# Altium integrated library Linear Technology Power Management Hot Swap Controllers.IntLib: 992 symbols (part 64 of 93)
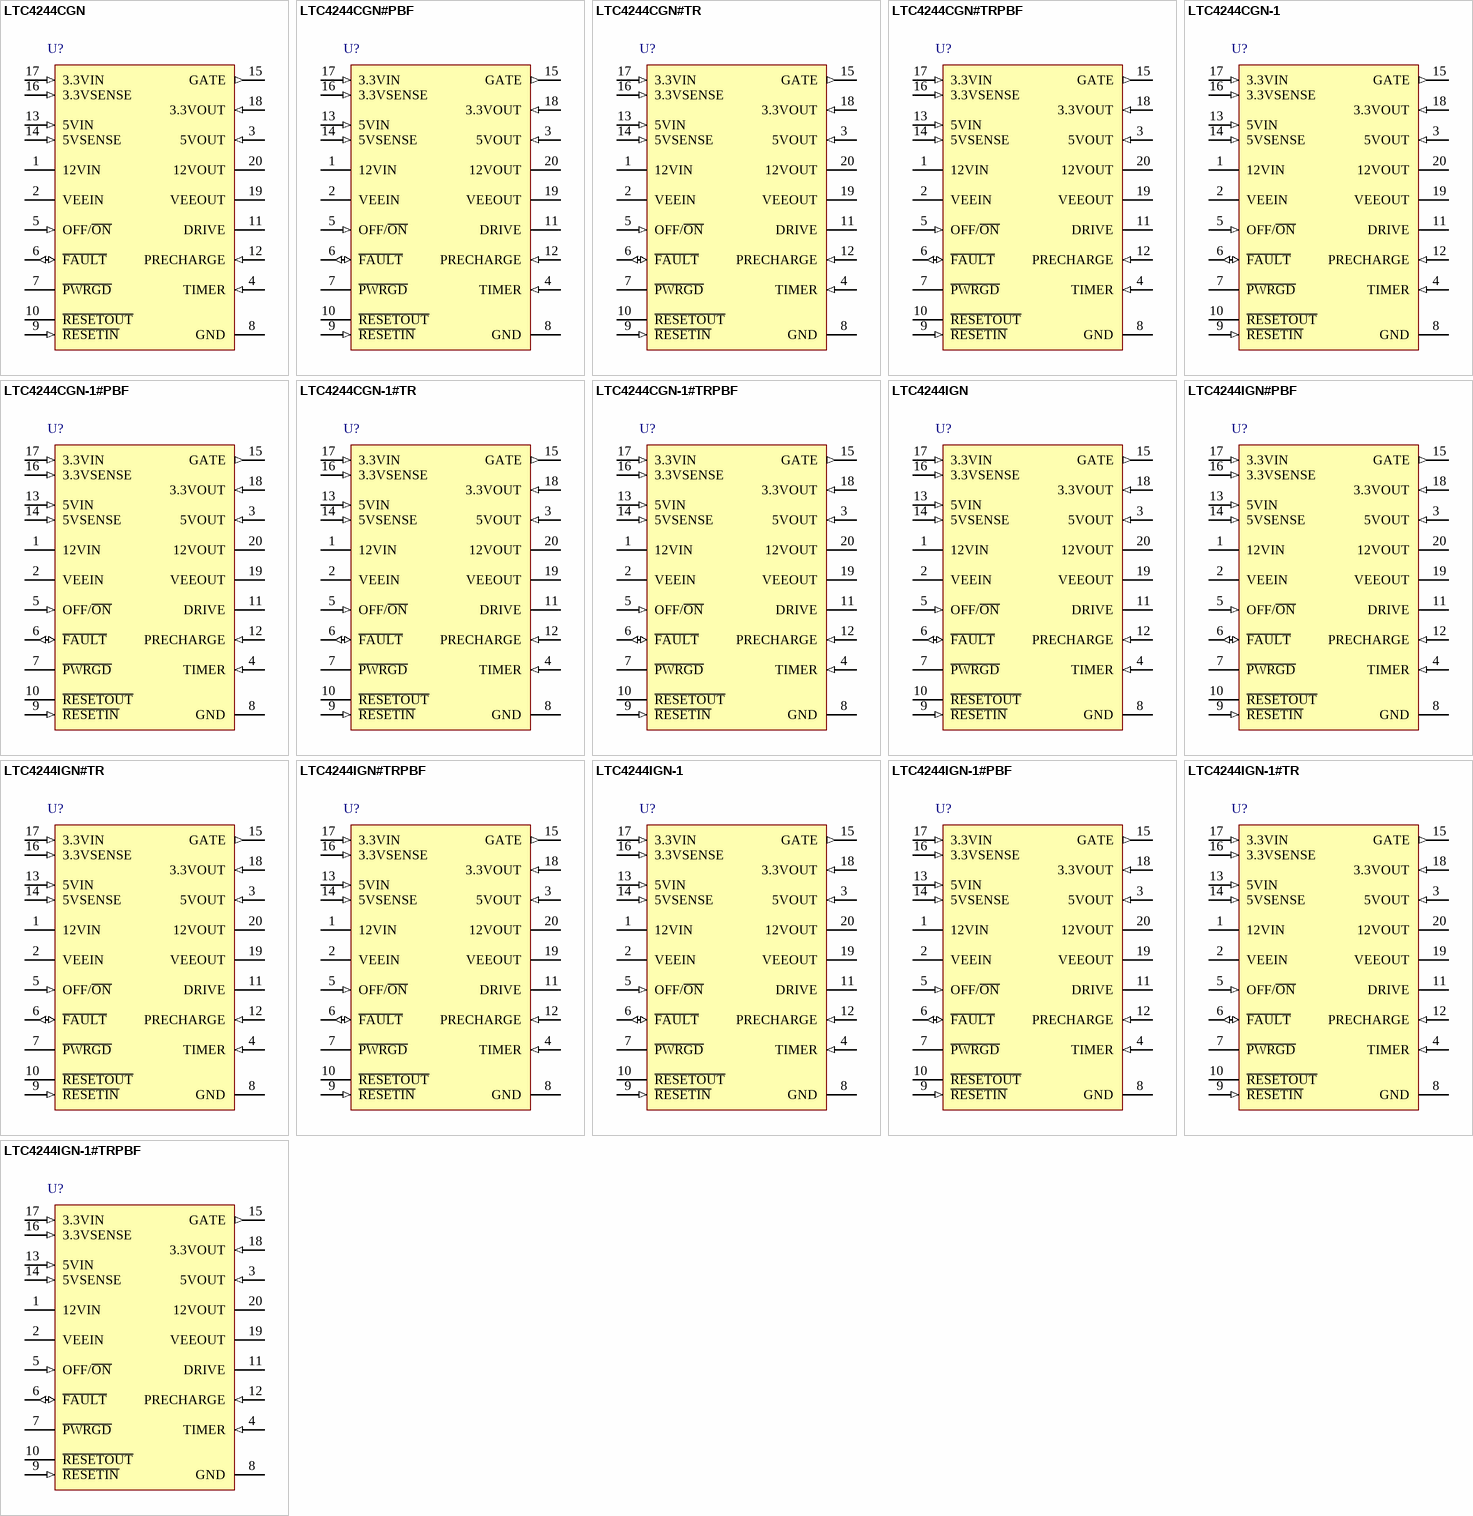
[diagram p100: symbols LTC4244CGN to LTC4244IGN-1#TRPBF]

## LTC4244CGN#TRPBF
designator U?
Rugged, Compact PCI Bus Hot Swap Controller, 3.3 V, 5 V, +/-12 V Vin, 20-pin SOP (GN-20), 0 to 70 degC, Pb-Free, Tape and Reel; Manufacturer: Linear Technology; PartNumber: LTC4244CGN#TRPBF; Active Limiting: yes; Circuit Breaker Accuracy(%): 14; Circuit Breaker Threshold: 52 mV; Circuit Breakers(#): 4; Extended Temp: C, I; Fast Comparator: no; In-Rush Current: Active; PackageVersion: Rev. B, 03/2012; PackageReference: GN-20; PackageDescription: 20-Pin Plastic SSOP, Body 8.649 x 3.899 mm, Pitch 0.635 mm; Supplier 1: Digi-Key; Supplier Part Number 1: LTC4244CGN#TRPBF-ND; Fault: yes; Foldback: yes; Packing: Tape and Reel; Power Good: yes; Reset: no; RoHS: TRUE; Vin Range: 3.3 V, 5 V, +/-12 V; Mounting Technology: Surface Mount; ComponentLink1Description: Manufacturer URL; ComponentLink1URL: http://www.linear.com/; ComponentLink2Description: Datasheet; ComponentLink2URL: http://cds.linear.com/docs/en/datasheet/42441f.pdf; ComponentLink3Description: Package Specification; ComponentLink3URL: http://cds.linear.com/docs/en/packaging/05081641_B_GN20.pdf
footprint LT-GN-20_N (SOP, 20-Leads, Body 8.7x4mm, Pitch 0.635mm, IPC Medium Density)
footprint LT-GN-20_L (SOP, 20-Leads, Body 8.7x4mm, Pitch 0.635mm, IPC High Density)
footprint LT-GN-20_M (SOP, 20-Leads, Body 8.7x4mm, Pitch 0.635mm, IPC Low Density)
pins: 1 12VIN (power) "12V Supply Input. A 0.5ohm switch is connected between 12VIN and 12VOUT with a foldback current limit. An undervoltage lockout circuit prevents the switches from turning on while the 12VIN pin voltage is less than 9V. 12VIN (See Datasheet)", 2 VEEIN (power) "-12V Supply Input. A 1ohm switch is connected between VEEIN and VEEOUT with a foldback current limit. An undervoltage lockout circuit prevents the switches from turning on while the VEEIN pin voltage is greater than -9.25V. (See Datasheet)", 3 5VOUT (in) "5V Output Sense. The P\W\R\G\D\ pin will not pull low until the 5VOUT pin voltage exceeds 4.61V. A 200ohm active pull-down discharges 5VOUT to ground when the power switches are turned off.", 4 TIMER (in) "Current Fault Inhibit Timing Input and Auxiliary VCC. Connect a capacitor from TIMER to GND. When the LTC4244 is turned on, a 21uA pull-up current source is connected to TIMER. Current limit faults will be ignored until the (See Datasheet)", 5 OFF/~{ON} (in) "Digital Input. Connect the CPCI BD_SEL# signal to the OFF/O\N\ pin. When the OFF/O\N\ pin is pulled low, the GATE pin is pulled high by a 67uA current source and the internal 12V and -12V switches are turned on. When the (See Datasheet)", 6 ~{FAULT} (io) "Open-Drain Digital I/O. F\A\U\L\T\ is pulled low when a current limit fault is detected. Current limit faults are ignored until the voltage at the TIMER pin is within 1.6V of 12VIN. Once the TIMER cycle is complete, (See Datasheet)", 7 ~{PWRGD} (oc) "Open-Drain Digital Power Good Output. Connect the CPCI HEALTHY# signal to the P\W\R\G\D\ pin. P\W\R\G\D\ remains low while V12VOUT >= 11.1V, V3.3VOUT >= 2.9V, V5VOUT >= 4.61V, and VEEOUT=< -11.1V. When any of the supplies (See Datasheet)", 8 GND (power) "Device Ground.", 9 ~{RESETIN} (in) "Digital Input. Connect the CPCI PCI_RST# signal to the R\E\S\E\T\I\N\ pin. Pulling the R\E\S\E\T\I\N\ pin low will cause R\E\S\E\T\O\U\T\ to pull low. R\E\S\E\T\O\U\T\ will also pull low when P\W\R\G\D\ is high.", 10 ~{RESETOUT} (oc) "Open-Drain Digital Output. Connect the CPCI_LOCAL_RST# signal to the R\E\S\E\T\O\U\T\ pin. R\E\S\E\T\O\U\T\ is the logical combination of the R\E\S\E\T\I\N\ and P\W\R\G\D\.", 11 DRIVE (oc) "Precharge Base Drive Output. Provides base drive for an external NPN emitter-follower that in turn biases the PRECHARGE node.", 12 PRECHARGE (in) "Precharge Monitor Input. An internal error amplifier servos the DRIVE pin voltage to keep the PRECHARGE node at 1V. See Applications Information for generating voltages other than 1V. If not used, tie the PRECHARGE pin to (See Datasheet)", 13 5VIN (in) "5V Supply Sense Input. An undervoltage lockout circuit prevents the switches from turning on when the voltage at the 5VIN pin is less than 4.25V.", 14 5VSENSE (in) "5V Current Limit Sense. With a sense resistor placed in the supply path between 5VIN and 5VSENSE, the GATE pin voltage will be adjusted to maintain a constant 51mV across the sense resistor and a constant current through the (See Datasheet)", 15 GATE (out) "High Side Gate Drive for the External 3.3V and 5V N-Channel Pass Transistors. An external series RC network is required for current limit loop compensation and setting the minimum ramp-up time. During power-up, the slope of (See Datasheet)", 16 3.3VSENSE (in) "3.3V Current Limit Sense. With a sense resistor placed in the supply path between 3.3VIN and 3.3VSENSE, the GATE pin voltage will be adjusted to maintain a constant 51mV across the sense resistor and a constant current (See Datasheet)", 17 3.3VIN (in) "3.3V Supply Sense Input. An undervoltage lockout circuit prevents the switches from turning on when the voltage at the 3.3VIN pin is less than 2.5V. If no 3.3V input supply is available, short the 3.3VIN pin to the 5VIN pin.", 18 3.3VOUT (in) "Analog Input Used to Monitor the 3.3V Output Supply Voltage. The P\W\R\G\D\ pin cannot pull low until the 3.3VOUT pin voltage exceeds 2.9V. If no 3.3V input supply is available, tie the 3.3VOUT pin to the 5VOUT pin. A 200ohm (See Datasheet)", 19 VEEOUT (power) "12V Supply Output. A 1ohm switch is connected between VEEIN and VEEOUT. VEEOUT must be less than -11.1V before the P\W\R\G\D\ pin pulls low. The VEEOUT power good comparator is disabled for the LTC4244-1. A390ohm active (See Datasheet)", 20 12VOUT (power) "12V Supply Output. A 0.5ohm switch is connected between 12VIN and 12VOUT. 12VOUT must exceed 11.1V before the P\W\R\G\D\ pin can pull low. A 440ohm active pull-down discharges 12VOUT to ground when the power switches are (See Datasheet)"

## LTC4244CGN-1
designator U?
Rugged, Compact PCI Bus Hot Swap Controller, 3.3 V, 5 V, +/-12 V Vin, 20-pin SOP (GN-20), 0 to 70 degC; Manufacturer: Linear Technology; PartNumber: LTC4244CGN-1; Active Limiting: yes; Circuit Breaker Accuracy(%): 14; Circuit Breaker Threshold: 52 mV; Circuit Breakers(#): 4; Extended Temp: C, I; Fast Comparator: no; In-Rush Current: Active; PackageVersion: Rev. B, 03/2012; PackageReference: GN-20; PackageDescription: 20-Pin Plastic SSOP, Body 8.649 x 3.899 mm, Pitch 0.635 mm; Fault: yes; Foldback: yes; Power Good: yes; Reset: no; RoHS: FALSE; Vin Range: 3.3 V, 5 V, +/-12 V; Mounting Technology: Surface Mount; ComponentLink1Description: Manufacturer URL; ComponentLink1URL: http://www.linear.com/; ComponentLink2Description: Datasheet; ComponentLink2URL: http://cds.linear.com/docs/en/datasheet/42441f.pdf; ComponentLink3Description: Package Specification; ComponentLink3URL: http://cds.linear.com/docs/en/packaging/05081641_B_GN20.pdf
footprint LT-GN-20_N (SOP, 20-Leads, Body 8.7x4mm, Pitch 0.635mm, IPC Medium Density)
footprint LT-GN-20_L (SOP, 20-Leads, Body 8.7x4mm, Pitch 0.635mm, IPC High Density)
footprint LT-GN-20_M (SOP, 20-Leads, Body 8.7x4mm, Pitch 0.635mm, IPC Low Density)
pins: 1 12VIN (power) "12V Supply Input. A 0.5ohm switch is connected between 12VIN and 12VOUT with a foldback current limit. An undervoltage lockout circuit prevents the switches from turning on while the 12VIN pin voltage is less than 9V. 12VIN (See Datasheet)", 2 VEEIN (power) "-12V Supply Input. A 1ohm switch is connected between VEEIN and VEEOUT with a foldback current limit. An undervoltage lockout circuit prevents the switches from turning on while the VEEIN pin voltage is greater than -9.25V. (See Datasheet)", 3 5VOUT (in) "5V Output Sense. The P\W\R\G\D\ pin will not pull low until the 5VOUT pin voltage exceeds 4.61V. A 200ohm active pull-down discharges 5VOUT to ground when the power switches are turned off.", 4 TIMER (in) "Current Fault Inhibit Timing Input and Auxiliary VCC. Connect a capacitor from TIMER to GND. When the LTC4244 is turned on, a 21uA pull-up current source is connected to TIMER. Current limit faults will be ignored until the (See Datasheet)", 5 OFF/~{ON} (in) "Digital Input. Connect the CPCI BD_SEL# signal to the OFF/O\N\ pin. When the OFF/O\N\ pin is pulled low, the GATE pin is pulled high by a 67uA current source and the internal 12V and -12V switches are turned on. When the (See Datasheet)", 6 ~{FAULT} (io) "Open-Drain Digital I/O. F\A\U\L\T\ is pulled low when a current limit fault is detected. Current limit faults are ignored until the voltage at the TIMER pin is within 1.6V of 12VIN. Once the TIMER cycle is complete, (See Datasheet)", 7 ~{PWRGD} (oc) "Open-Drain Digital Power Good Output. Connect the CPCI HEALTHY# signal to the P\W\R\G\D\ pin. P\W\R\G\D\ remains low while V12VOUT >= 11.1V, V3.3VOUT >= 2.9V, V5VOUT >= 4.61V, and VEEOUT=< -11.1V. When any of the supplies (See Datasheet)", 8 GND (power) "Device Ground.", 9 ~{RESETIN} (in) "Digital Input. Connect the CPCI PCI_RST# signal to the R\E\S\E\T\I\N\ pin. Pulling the R\E\S\E\T\I\N\ pin low will cause R\E\S\E\T\O\U\T\ to pull low. R\E\S\E\T\O\U\T\ will also pull low when P\W\R\G\D\ is high.", 10 ~{RESETOUT} (oc) "Open-Drain Digital Output. Connect the CPCI_LOCAL_RST# signal to the R\E\S\E\T\O\U\T\ pin. R\E\S\E\T\O\U\T\ is the logical combination of the R\E\S\E\T\I\N\ and P\W\R\G\D\.", 11 DRIVE (oc) "Precharge Base Drive Output. Provides base drive for an external NPN emitter-follower that in turn biases the PRECHARGE node.", 12 PRECHARGE (in) "Precharge Monitor Input. An internal error amplifier servos the DRIVE pin voltage to keep the PRECHARGE node at 1V. See Applications Information for generating voltages other than 1V. If not used, tie the PRECHARGE pin to (See Datasheet)", 13 5VIN (in) "5V Supply Sense Input. An undervoltage lockout circuit prevents the switches from turning on when the voltage at the 5VIN pin is less than 4.25V.", 14 5VSENSE (in) "5V Current Limit Sense. With a sense resistor placed in the supply path between 5VIN and 5VSENSE, the GATE pin voltage will be adjusted to maintain a constant 51mV across the sense resistor and a constant current through the (See Datasheet)", 15 GATE (out) "High Side Gate Drive for the External 3.3V and 5V N-Channel Pass Transistors. An external series RC network is required for current limit loop compensation and setting the minimum ramp-up time. During power-up, the slope of (See Datasheet)", 16 3.3VSENSE (in) "3.3V Current Limit Sense. With a sense resistor placed in the supply path between 3.3VIN and 3.3VSENSE, the GATE pin voltage will be adjusted to maintain a constant 51mV across the sense resistor and a constant current (See Datasheet)", 17 3.3VIN (in) "3.3V Supply Sense Input. An undervoltage lockout circuit prevents the switches from turning on when the voltage at the 3.3VIN pin is less than 2.5V. If no 3.3V input supply is available, short the 3.3VIN pin to the 5VIN pin.", 18 3.3VOUT (in) "Analog Input Used to Monitor the 3.3V Output Supply Voltage. The P\W\R\G\D\ pin cannot pull low until the 3.3VOUT pin voltage exceeds 2.9V. If no 3.3V input supply is available, tie the 3.3VOUT pin to the 5VOUT pin. A 200ohm (See Datasheet)", 19 VEEOUT (power) "12V Supply Output. A 1ohm switch is connected between VEEIN and VEEOUT. VEEOUT must be less than -11.1V before the P\W\R\G\D\ pin pulls low. The VEEOUT power good comparator is disabled for the LTC4244-1. A390ohm active (See Datasheet)", 20 12VOUT (power) "12V Supply Output. A 0.5ohm switch is connected between 12VIN and 12VOUT. 12VOUT must exceed 11.1V before the P\W\R\G\D\ pin can pull low. A 440ohm active pull-down discharges 12VOUT to ground when the power switches are (See Datasheet)"

## LTC4244CGN-1#PBF
designator U?
Rugged, Compact PCI Bus Hot Swap Controller, 3.3 V, 5 V, +/-12 V Vin, 20-pin SOP (GN-20), 0 to 70 degC, Pb-Free; Manufacturer: Linear Technology; PartNumber: LTC4244CGN-1#PBF; Active Limiting: yes; Circuit Breaker Accuracy(%): 14; Circuit Breaker Threshold: 52 mV; Circuit Breakers(#): 4; Extended Temp: C, I; Fast Comparator: no; In-Rush Current: Active; PackageVersion: Rev. B, 03/2012; PackageReference: GN-20; PackageDescription: 20-Pin Plastic SSOP, Body 8.649 x 3.899 mm, Pitch 0.635 mm; Supplier 1: Digi-Key; Supplier Part Number 1: LTC4244CGN-1#PBF-ND; Fault: yes; Foldback: yes; Power Good: yes; Reset: no; RoHS: TRUE; Vin Range: 3.3 V, 5 V, +/-12 V; Mounting Technology: Surface Mount; ComponentLink1Description: Manufacturer URL; ComponentLink1URL: http://www.linear.com/; ComponentLink2Description: Datasheet; ComponentLink2URL: http://cds.linear.com/docs/en/datasheet/42441f.pdf; ComponentLink3Description: Package Specification; ComponentLink3URL: http://cds.linear.com/docs/en/packaging/05081641_B_GN20.pdf
footprint LT-GN-20_N (SOP, 20-Leads, Body 8.7x4mm, Pitch 0.635mm, IPC Medium Density)
footprint LT-GN-20_L (SOP, 20-Leads, Body 8.7x4mm, Pitch 0.635mm, IPC High Density)
footprint LT-GN-20_M (SOP, 20-Leads, Body 8.7x4mm, Pitch 0.635mm, IPC Low Density)
pins: 1 12VIN (power) "12V Supply Input. A 0.5ohm switch is connected between 12VIN and 12VOUT with a foldback current limit. An undervoltage lockout circuit prevents the switches from turning on while the 12VIN pin voltage is less than 9V. 12VIN (See Datasheet)", 2 VEEIN (power) "-12V Supply Input. A 1ohm switch is connected between VEEIN and VEEOUT with a foldback current limit. An undervoltage lockout circuit prevents the switches from turning on while the VEEIN pin voltage is greater than -9.25V. (See Datasheet)", 3 5VOUT (in) "5V Output Sense. The P\W\R\G\D\ pin will not pull low until the 5VOUT pin voltage exceeds 4.61V. A 200ohm active pull-down discharges 5VOUT to ground when the power switches are turned off.", 4 TIMER (in) "Current Fault Inhibit Timing Input and Auxiliary VCC. Connect a capacitor from TIMER to GND. When the LTC4244 is turned on, a 21uA pull-up current source is connected to TIMER. Current limit faults will be ignored until the (See Datasheet)", 5 OFF/~{ON} (in) "Digital Input. Connect the CPCI BD_SEL# signal to the OFF/O\N\ pin. When the OFF/O\N\ pin is pulled low, the GATE pin is pulled high by a 67uA current source and the internal 12V and -12V switches are turned on. When the (See Datasheet)", 6 ~{FAULT} (io) "Open-Drain Digital I/O. F\A\U\L\T\ is pulled low when a current limit fault is detected. Current limit faults are ignored until the voltage at the TIMER pin is within 1.6V of 12VIN. Once the TIMER cycle is complete, (See Datasheet)", 7 ~{PWRGD} (oc) "Open-Drain Digital Power Good Output. Connect the CPCI HEALTHY# signal to the P\W\R\G\D\ pin. P\W\R\G\D\ remains low while V12VOUT >= 11.1V, V3.3VOUT >= 2.9V, V5VOUT >= 4.61V, and VEEOUT=< -11.1V. When any of the supplies (See Datasheet)", 8 GND (power) "Device Ground.", 9 ~{RESETIN} (in) "Digital Input. Connect the CPCI PCI_RST# signal to the R\E\S\E\T\I\N\ pin. Pulling the R\E\S\E\T\I\N\ pin low will cause R\E\S\E\T\O\U\T\ to pull low. R\E\S\E\T\O\U\T\ will also pull low when P\W\R\G\D\ is high.", 10 ~{RESETOUT} (oc) "Open-Drain Digital Output. Connect the CPCI_LOCAL_RST# signal to the R\E\S\E\T\O\U\T\ pin. R\E\S\E\T\O\U\T\ is the logical combination of the R\E\S\E\T\I\N\ and P\W\R\G\D\.", 11 DRIVE (oc) "Precharge Base Drive Output. Provides base drive for an external NPN emitter-follower that in turn biases the PRECHARGE node.", 12 PRECHARGE (in) "Precharge Monitor Input. An internal error amplifier servos the DRIVE pin voltage to keep the PRECHARGE node at 1V. See Applications Information for generating voltages other than 1V. If not used, tie the PRECHARGE pin to (See Datasheet)", 13 5VIN (in) "5V Supply Sense Input. An undervoltage lockout circuit prevents the switches from turning on when the voltage at the 5VIN pin is less than 4.25V.", 14 5VSENSE (in) "5V Current Limit Sense. With a sense resistor placed in the supply path between 5VIN and 5VSENSE, the GATE pin voltage will be adjusted to maintain a constant 51mV across the sense resistor and a constant current through the (See Datasheet)", 15 GATE (out) "High Side Gate Drive for the External 3.3V and 5V N-Channel Pass Transistors. An external series RC network is required for current limit loop compensation and setting the minimum ramp-up time. During power-up, the slope of (See Datasheet)", 16 3.3VSENSE (in) "3.3V Current Limit Sense. With a sense resistor placed in the supply path between 3.3VIN and 3.3VSENSE, the GATE pin voltage will be adjusted to maintain a constant 51mV across the sense resistor and a constant current (See Datasheet)", 17 3.3VIN (in) "3.3V Supply Sense Input. An undervoltage lockout circuit prevents the switches from turning on when the voltage at the 3.3VIN pin is less than 2.5V. If no 3.3V input supply is available, short the 3.3VIN pin to the 5VIN pin.", 18 3.3VOUT (in) "Analog Input Used to Monitor the 3.3V Output Supply Voltage. The P\W\R\G\D\ pin cannot pull low until the 3.3VOUT pin voltage exceeds 2.9V. If no 3.3V input supply is available, tie the 3.3VOUT pin to the 5VOUT pin. A 200ohm (See Datasheet)", 19 VEEOUT (power) "12V Supply Output. A 1ohm switch is connected between VEEIN and VEEOUT. VEEOUT must be less than -11.1V before the P\W\R\G\D\ pin pulls low. The VEEOUT power good comparator is disabled for the LTC4244-1. A390ohm active (See Datasheet)", 20 12VOUT (power) "12V Supply Output. A 0.5ohm switch is connected between 12VIN and 12VOUT. 12VOUT must exceed 11.1V before the P\W\R\G\D\ pin can pull low. A 440ohm active pull-down discharges 12VOUT to ground when the power switches are (See Datasheet)"

## LTC4244CGN-1#TR
designator U?
Rugged, Compact PCI Bus Hot Swap Controller, 3.3 V, 5 V, +/-12 V Vin, 20-pin SOP (GN-20), 0 to 70 degC, Tape and Reel; Manufacturer: Linear Technology; PartNumber: LTC4244CGN-1#TR; Active Limiting: yes; Circuit Breaker Accuracy(%): 14; Circuit Breaker Threshold: 52 mV; Circuit Breakers(#): 4; Extended Temp: C, I; Fast Comparator: no; In-Rush Current: Active; PackageVersion: Rev. B, 03/2012; PackageReference: GN-20; PackageDescription: 20-Pin Plastic SSOP, Body 8.649 x 3.899 mm, Pitch 0.635 mm; Supplier 1: Digi-Key; Supplier Part Number 1: LTC4244CGN-1#TR-ND; Fault: yes; Foldback: yes; Packing: Tape and Reel; Power Good: yes; Reset: no; RoHS: FALSE; Vin Range: 3.3 V, 5 V, +/-12 V; Mounting Technology: Surface Mount; ComponentLink1Description: Manufacturer URL; ComponentLink1URL: http://www.linear.com/; ComponentLink2Description: Datasheet; ComponentLink2URL: http://cds.linear.com/docs/en/datasheet/42441f.pdf; ComponentLink3Description: Package Specification; ComponentLink3URL: http://cds.linear.com/docs/en/packaging/05081641_B_GN20.pdf
footprint LT-GN-20_N (SOP, 20-Leads, Body 8.7x4mm, Pitch 0.635mm, IPC Medium Density)
footprint LT-GN-20_L (SOP, 20-Leads, Body 8.7x4mm, Pitch 0.635mm, IPC High Density)
footprint LT-GN-20_M (SOP, 20-Leads, Body 8.7x4mm, Pitch 0.635mm, IPC Low Density)
pins: 1 12VIN (power) "12V Supply Input. A 0.5ohm switch is connected between 12VIN and 12VOUT with a foldback current limit. An undervoltage lockout circuit prevents the switches from turning on while the 12VIN pin voltage is less than 9V. 12VIN (See Datasheet)", 2 VEEIN (power) "-12V Supply Input. A 1ohm switch is connected between VEEIN and VEEOUT with a foldback current limit. An undervoltage lockout circuit prevents the switches from turning on while the VEEIN pin voltage is greater than -9.25V. (See Datasheet)", 3 5VOUT (in) "5V Output Sense. The P\W\R\G\D\ pin will not pull low until the 5VOUT pin voltage exceeds 4.61V. A 200ohm active pull-down discharges 5VOUT to ground when the power switches are turned off.", 4 TIMER (in) "Current Fault Inhibit Timing Input and Auxiliary VCC. Connect a capacitor from TIMER to GND. When the LTC4244 is turned on, a 21uA pull-up current source is connected to TIMER. Current limit faults will be ignored until the (See Datasheet)", 5 OFF/~{ON} (in) "Digital Input. Connect the CPCI BD_SEL# signal to the OFF/O\N\ pin. When the OFF/O\N\ pin is pulled low, the GATE pin is pulled high by a 67uA current source and the internal 12V and -12V switches are turned on. When the (See Datasheet)", 6 ~{FAULT} (io) "Open-Drain Digital I/O. F\A\U\L\T\ is pulled low when a current limit fault is detected. Current limit faults are ignored until the voltage at the TIMER pin is within 1.6V of 12VIN. Once the TIMER cycle is complete, (See Datasheet)", 7 ~{PWRGD} (oc) "Open-Drain Digital Power Good Output. Connect the CPCI HEALTHY# signal to the P\W\R\G\D\ pin. P\W\R\G\D\ remains low while V12VOUT >= 11.1V, V3.3VOUT >= 2.9V, V5VOUT >= 4.61V, and VEEOUT=< -11.1V. When any of the supplies (See Datasheet)", 8 GND (power) "Device Ground.", 9 ~{RESETIN} (in) "Digital Input. Connect the CPCI PCI_RST# signal to the R\E\S\E\T\I\N\ pin. Pulling the R\E\S\E\T\I\N\ pin low will cause R\E\S\E\T\O\U\T\ to pull low. R\E\S\E\T\O\U\T\ will also pull low when P\W\R\G\D\ is high.", 10 ~{RESETOUT} (oc) "Open-Drain Digital Output. Connect the CPCI_LOCAL_RST# signal to the R\E\S\E\T\O\U\T\ pin. R\E\S\E\T\O\U\T\ is the logical combination of the R\E\S\E\T\I\N\ and P\W\R\G\D\.", 11 DRIVE (oc) "Precharge Base Drive Output. Provides base drive for an external NPN emitter-follower that in turn biases the PRECHARGE node.", 12 PRECHARGE (in) "Precharge Monitor Input. An internal error amplifier servos the DRIVE pin voltage to keep the PRECHARGE node at 1V. See Applications Information for generating voltages other than 1V. If not used, tie the PRECHARGE pin to (See Datasheet)", 13 5VIN (in) "5V Supply Sense Input. An undervoltage lockout circuit prevents the switches from turning on when the voltage at the 5VIN pin is less than 4.25V.", 14 5VSENSE (in) "5V Current Limit Sense. With a sense resistor placed in the supply path between 5VIN and 5VSENSE, the GATE pin voltage will be adjusted to maintain a constant 51mV across the sense resistor and a constant current through the (See Datasheet)", 15 GATE (out) "High Side Gate Drive for the External 3.3V and 5V N-Channel Pass Transistors. An external series RC network is required for current limit loop compensation and setting the minimum ramp-up time. During power-up, the slope of (See Datasheet)", 16 3.3VSENSE (in) "3.3V Current Limit Sense. With a sense resistor placed in the supply path between 3.3VIN and 3.3VSENSE, the GATE pin voltage will be adjusted to maintain a constant 51mV across the sense resistor and a constant current (See Datasheet)", 17 3.3VIN (in) "3.3V Supply Sense Input. An undervoltage lockout circuit prevents the switches from turning on when the voltage at the 3.3VIN pin is less than 2.5V. If no 3.3V input supply is available, short the 3.3VIN pin to the 5VIN pin.", 18 3.3VOUT (in) "Analog Input Used to Monitor the 3.3V Output Supply Voltage. The P\W\R\G\D\ pin cannot pull low until the 3.3VOUT pin voltage exceeds 2.9V. If no 3.3V input supply is available, tie the 3.3VOUT pin to the 5VOUT pin. A 200ohm (See Datasheet)", 19 VEEOUT (power) "12V Supply Output. A 1ohm switch is connected between VEEIN and VEEOUT. VEEOUT must be less than -11.1V before the P\W\R\G\D\ pin pulls low. The VEEOUT power good comparator is disabled for the LTC4244-1. A390ohm active (See Datasheet)", 20 12VOUT (power) "12V Supply Output. A 0.5ohm switch is connected between 12VIN and 12VOUT. 12VOUT must exceed 11.1V before the P\W\R\G\D\ pin can pull low. A 440ohm active pull-down discharges 12VOUT to ground when the power switches are (See Datasheet)"

## LTC4244CGN-1#TRPBF
designator U?
Rugged, Compact PCI Bus Hot Swap Controller, 3.3 V, 5 V, +/-12 V Vin, 20-pin SOP (GN-20), 0 to 70 degC, Pb-Free, Tape and Reel; Manufacturer: Linear Technology; PartNumber: LTC4244CGN-1#TRPBF; Active Limiting: yes; Circuit Breaker Accuracy(%): 14; Circuit Breaker Threshold: 52 mV; Circuit Breakers(#): 4; Extended Temp: C, I; Fast Comparator: no; In-Rush Current: Active; PackageVersion: Rev. B, 03/2012; PackageReference: GN-20; PackageDescription: 20-Pin Plastic SSOP, Body 8.649 x 3.899 mm, Pitch 0.635 mm; Supplier 1: Digi-Key; Supplier Part Number 1: LTC4244CGN-1#TRPBF-ND; Fault: yes; Foldback: yes; Packing: Tape and Reel; Power Good: yes; Reset: no; RoHS: TRUE; Vin Range: 3.3 V, 5 V, +/-12 V; Mounting Technology: Surface Mount; ComponentLink1Description: Manufacturer URL; ComponentLink1URL: http://www.linear.com/; ComponentLink2Description: Datasheet; ComponentLink2URL: http://cds.linear.com/docs/en/datasheet/42441f.pdf; ComponentLink3Description: Package Specification; ComponentLink3URL: http://cds.linear.com/docs/en/packaging/05081641_B_GN20.pdf
footprint LT-GN-20_N (SOP, 20-Leads, Body 8.7x4mm, Pitch 0.635mm, IPC Medium Density)
footprint LT-GN-20_L (SOP, 20-Leads, Body 8.7x4mm, Pitch 0.635mm, IPC High Density)
footprint LT-GN-20_M (SOP, 20-Leads, Body 8.7x4mm, Pitch 0.635mm, IPC Low Density)
pins: 1 12VIN (power) "12V Supply Input. A 0.5ohm switch is connected between 12VIN and 12VOUT with a foldback current limit. An undervoltage lockout circuit prevents the switches from turning on while the 12VIN pin voltage is less than 9V. 12VIN (See Datasheet)", 2 VEEIN (power) "-12V Supply Input. A 1ohm switch is connected between VEEIN and VEEOUT with a foldback current limit. An undervoltage lockout circuit prevents the switches from turning on while the VEEIN pin voltage is greater than -9.25V. (See Datasheet)", 3 5VOUT (in) "5V Output Sense. The P\W\R\G\D\ pin will not pull low until the 5VOUT pin voltage exceeds 4.61V. A 200ohm active pull-down discharges 5VOUT to ground when the power switches are turned off.", 4 TIMER (in) "Current Fault Inhibit Timing Input and Auxiliary VCC. Connect a capacitor from TIMER to GND. When the LTC4244 is turned on, a 21uA pull-up current source is connected to TIMER. Current limit faults will be ignored until the (See Datasheet)", 5 OFF/~{ON} (in) "Digital Input. Connect the CPCI BD_SEL# signal to the OFF/O\N\ pin. When the OFF/O\N\ pin is pulled low, the GATE pin is pulled high by a 67uA current source and the internal 12V and -12V switches are turned on. When the (See Datasheet)", 6 ~{FAULT} (io) "Open-Drain Digital I/O. F\A\U\L\T\ is pulled low when a current limit fault is detected. Current limit faults are ignored until the voltage at the TIMER pin is within 1.6V of 12VIN. Once the TIMER cycle is complete, (See Datasheet)", 7 ~{PWRGD} (oc) "Open-Drain Digital Power Good Output. Connect the CPCI HEALTHY# signal to the P\W\R\G\D\ pin. P\W\R\G\D\ remains low while V12VOUT >= 11.1V, V3.3VOUT >= 2.9V, V5VOUT >= 4.61V, and VEEOUT=< -11.1V. When any of the supplies (See Datasheet)", 8 GND (power) "Device Ground.", 9 ~{RESETIN} (in) "Digital Input. Connect the CPCI PCI_RST# signal to the R\E\S\E\T\I\N\ pin. Pulling the R\E\S\E\T\I\N\ pin low will cause R\E\S\E\T\O\U\T\ to pull low. R\E\S\E\T\O\U\T\ will also pull low when P\W\R\G\D\ is high.", 10 ~{RESETOUT} (oc) "Open-Drain Digital Output. Connect the CPCI_LOCAL_RST# signal to the R\E\S\E\T\O\U\T\ pin. R\E\S\E\T\O\U\T\ is the logical combination of the R\E\S\E\T\I\N\ and P\W\R\G\D\.", 11 DRIVE (oc) "Precharge Base Drive Output. Provides base drive for an external NPN emitter-follower that in turn biases the PRECHARGE node.", 12 PRECHARGE (in) "Precharge Monitor Input. An internal error amplifier servos the DRIVE pin voltage to keep the PRECHARGE node at 1V. See Applications Information for generating voltages other than 1V. If not used, tie the PRECHARGE pin to (See Datasheet)", 13 5VIN (in) "5V Supply Sense Input. An undervoltage lockout circuit prevents the switches from turning on when the voltage at the 5VIN pin is less than 4.25V.", 14 5VSENSE (in) "5V Current Limit Sense. With a sense resistor placed in the supply path between 5VIN and 5VSENSE, the GATE pin voltage will be adjusted to maintain a constant 51mV across the sense resistor and a constant current through the (See Datasheet)", 15 GATE (out) "High Side Gate Drive for the External 3.3V and 5V N-Channel Pass Transistors. An external series RC network is required for current limit loop compensation and setting the minimum ramp-up time. During power-up, the slope of (See Datasheet)", 16 3.3VSENSE (in) "3.3V Current Limit Sense. With a sense resistor placed in the supply path between 3.3VIN and 3.3VSENSE, the GATE pin voltage will be adjusted to maintain a constant 51mV across the sense resistor and a constant current (See Datasheet)", 17 3.3VIN (in) "3.3V Supply Sense Input. An undervoltage lockout circuit prevents the switches from turning on when the voltage at the 3.3VIN pin is less than 2.5V. If no 3.3V input supply is available, short the 3.3VIN pin to the 5VIN pin.", 18 3.3VOUT (in) "Analog Input Used to Monitor the 3.3V Output Supply Voltage. The P\W\R\G\D\ pin cannot pull low until the 3.3VOUT pin voltage exceeds 2.9V. If no 3.3V input supply is available, tie the 3.3VOUT pin to the 5VOUT pin. A 200ohm (See Datasheet)", 19 VEEOUT (power) "12V Supply Output. A 1ohm switch is connected between VEEIN and VEEOUT. VEEOUT must be less than -11.1V before the P\W\R\G\D\ pin pulls low. The VEEOUT power good comparator is disabled for the LTC4244-1. A390ohm active (See Datasheet)", 20 12VOUT (power) "12V Supply Output. A 0.5ohm switch is connected between 12VIN and 12VOUT. 12VOUT must exceed 11.1V before the P\W\R\G\D\ pin can pull low. A 440ohm active pull-down discharges 12VOUT to ground when the power switches are (See Datasheet)"

## LTC4244IGN
designator U?
Rugged, Compact PCI Bus Hot Swap Controller, 3.3 V, 5 V, +/-12 V Vin, 20-pin SOP (GN-20), -40 to 85 degC; Manufacturer: Linear Technology; PartNumber: LTC4244IGN; Active Limiting: yes; Circuit Breaker Accuracy(%): 14; Circuit Breaker Threshold: 52 mV; Circuit Breakers(#): 4; Extended Temp: C, I; Fast Comparator: no; In-Rush Current: Active; PackageVersion: Rev. B, 03/2012; PackageReference: GN-20; PackageDescription: 20-Pin Plastic SSOP, Body 8.649 x 3.899 mm, Pitch 0.635 mm; Supplier 1: Digi-Key; Supplier Part Number 1: LTC4244IGN-ND; Fault: yes; Foldback: yes; Power Good: yes; Reset: no; RoHS: FALSE; Vin Range: 3.3 V, 5 V, +/-12 V; Mounting Technology: Surface Mount; ComponentLink1Description: Manufacturer URL; ComponentLink1URL: http://www.linear.com/; ComponentLink2Description: Datasheet; ComponentLink2URL: http://cds.linear.com/docs/en/datasheet/42441f.pdf; ComponentLink3Description: Package Specification; ComponentLink3URL: http://cds.linear.com/docs/en/packaging/05081641_B_GN20.pdf
footprint LT-GN-20_N (SOP, 20-Leads, Body 8.7x4mm, Pitch 0.635mm, IPC Medium Density)
footprint LT-GN-20_L (SOP, 20-Leads, Body 8.7x4mm, Pitch 0.635mm, IPC High Density)
footprint LT-GN-20_M (SOP, 20-Leads, Body 8.7x4mm, Pitch 0.635mm, IPC Low Density)
pins: 1 12VIN (power) "12V Supply Input. A 0.5ohm switch is connected between 12VIN and 12VOUT with a foldback current limit. An undervoltage lockout circuit prevents the switches from turning on while the 12VIN pin voltage is less than 9V. 12VIN (See Datasheet)", 2 VEEIN (power) "-12V Supply Input. A 1ohm switch is connected between VEEIN and VEEOUT with a foldback current limit. An undervoltage lockout circuit prevents the switches from turning on while the VEEIN pin voltage is greater than -9.25V. (See Datasheet)", 3 5VOUT (in) "5V Output Sense. The P\W\R\G\D\ pin will not pull low until the 5VOUT pin voltage exceeds 4.61V. A 200ohm active pull-down discharges 5VOUT to ground when the power switches are turned off.", 4 TIMER (in) "Current Fault Inhibit Timing Input and Auxiliary VCC. Connect a capacitor from TIMER to GND. When the LTC4244 is turned on, a 21uA pull-up current source is connected to TIMER. Current limit faults will be ignored until the (See Datasheet)", 5 OFF/~{ON} (in) "Digital Input. Connect the CPCI BD_SEL# signal to the OFF/O\N\ pin. When the OFF/O\N\ pin is pulled low, the GATE pin is pulled high by a 67uA current source and the internal 12V and -12V switches are turned on. When the (See Datasheet)", 6 ~{FAULT} (io) "Open-Drain Digital I/O. F\A\U\L\T\ is pulled low when a current limit fault is detected. Current limit faults are ignored until the voltage at the TIMER pin is within 1.6V of 12VIN. Once the TIMER cycle is complete, (See Datasheet)", 7 ~{PWRGD} (oc) "Open-Drain Digital Power Good Output. Connect the CPCI HEALTHY# signal to the P\W\R\G\D\ pin. P\W\R\G\D\ remains low while V12VOUT >= 11.1V, V3.3VOUT >= 2.9V, V5VOUT >= 4.61V, and VEEOUT=< -11.1V. When any of the supplies (See Datasheet)", 8 GND (power) "Device Ground.", 9 ~{RESETIN} (in) "Digital Input. Connect the CPCI PCI_RST# signal to the R\E\S\E\T\I\N\ pin. Pulling the R\E\S\E\T\I\N\ pin low will cause R\E\S\E\T\O\U\T\ to pull low. R\E\S\E\T\O\U\T\ will also pull low when P\W\R\G\D\ is high.", 10 ~{RESETOUT} (oc) "Open-Drain Digital Output. Connect the CPCI_LOCAL_RST# signal to the R\E\S\E\T\O\U\T\ pin. R\E\S\E\T\O\U\T\ is the logical combination of the R\E\S\E\T\I\N\ and P\W\R\G\D\.", 11 DRIVE (oc) "Precharge Base Drive Output. Provides base drive for an external NPN emitter-follower that in turn biases the PRECHARGE node.", 12 PRECHARGE (in) "Precharge Monitor Input. An internal error amplifier servos the DRIVE pin voltage to keep the PRECHARGE node at 1V. See Applications Information for generating voltages other than 1V. If not used, tie the PRECHARGE pin to (See Datasheet)", 13 5VIN (in) "5V Supply Sense Input. An undervoltage lockout circuit prevents the switches from turning on when the voltage at the 5VIN pin is less than 4.25V.", 14 5VSENSE (in) "5V Current Limit Sense. With a sense resistor placed in the supply path between 5VIN and 5VSENSE, the GATE pin voltage will be adjusted to maintain a constant 51mV across the sense resistor and a constant current through the (See Datasheet)", 15 GATE (out) "High Side Gate Drive for the External 3.3V and 5V N-Channel Pass Transistors. An external series RC network is required for current limit loop compensation and setting the minimum ramp-up time. During power-up, the slope of (See Datasheet)", 16 3.3VSENSE (in) "3.3V Current Limit Sense. With a sense resistor placed in the supply path between 3.3VIN and 3.3VSENSE, the GATE pin voltage will be adjusted to maintain a constant 51mV across the sense resistor and a constant current (See Datasheet)", 17 3.3VIN (in) "3.3V Supply Sense Input. An undervoltage lockout circuit prevents the switches from turning on when the voltage at the 3.3VIN pin is less than 2.5V. If no 3.3V input supply is available, short the 3.3VIN pin to the 5VIN pin.", 18 3.3VOUT (in) "Analog Input Used to Monitor the 3.3V Output Supply Voltage. The P\W\R\G\D\ pin cannot pull low until the 3.3VOUT pin voltage exceeds 2.9V. If no 3.3V input supply is available, tie the 3.3VOUT pin to the 5VOUT pin. A 200ohm (See Datasheet)", 19 VEEOUT (power) "12V Supply Output. A 1ohm switch is connected between VEEIN and VEEOUT. VEEOUT must be less than -11.1V before the P\W\R\G\D\ pin pulls low. The VEEOUT power good comparator is disabled for the LTC4244-1. A390ohm active (See Datasheet)", 20 12VOUT (power) "12V Supply Output. A 0.5ohm switch is connected between 12VIN and 12VOUT. 12VOUT must exceed 11.1V before the P\W\R\G\D\ pin can pull low. A 440ohm active pull-down discharges 12VOUT to ground when the power switches are (See Datasheet)"

## LTC4244IGN#PBF
designator U?
Rugged, Compact PCI Bus Hot Swap Controller, 3.3 V, 5 V, +/-12 V Vin, 20-pin SOP (GN-20), -40 to 85 degC, Pb-Free; Manufacturer: Linear Technology; PartNumber: LTC4244IGN#PBF; Active Limiting: yes; Circuit Breaker Accuracy(%): 14; Circuit Breaker Threshold: 52 mV; Circuit Breakers(#): 4; Extended Temp: C, I; Fast Comparator: no; In-Rush Current: Active; PackageVersion: Rev. B, 03/2012; PackageReference: GN-20; PackageDescription: 20-Pin Plastic SSOP, Body 8.649 x 3.899 mm, Pitch 0.635 mm; Supplier 1: Digi-Key; Supplier Part Number 1: LTC4244IGN#PBF-ND; Fault: yes; Foldback: yes; Power Good: yes; Reset: no; RoHS: TRUE; Vin Range: 3.3 V, 5 V, +/-12 V; Mounting Technology: Surface Mount; ComponentLink1Description: Manufacturer URL; ComponentLink1URL: http://www.linear.com/; ComponentLink2Description: Datasheet; ComponentLink2URL: http://cds.linear.com/docs/en/datasheet/42441f.pdf; ComponentLink3Description: Package Specification; ComponentLink3URL: http://cds.linear.com/docs/en/packaging/05081641_B_GN20.pdf
footprint LT-GN-20_N (SOP, 20-Leads, Body 8.7x4mm, Pitch 0.635mm, IPC Medium Density)
footprint LT-GN-20_L (SOP, 20-Leads, Body 8.7x4mm, Pitch 0.635mm, IPC High Density)
footprint LT-GN-20_M (SOP, 20-Leads, Body 8.7x4mm, Pitch 0.635mm, IPC Low Density)
pins: 1 12VIN (power) "12V Supply Input. A 0.5ohm switch is connected between 12VIN and 12VOUT with a foldback current limit. An undervoltage lockout circuit prevents the switches from turning on while the 12VIN pin voltage is less than 9V. 12VIN (See Datasheet)", 2 VEEIN (power) "-12V Supply Input. A 1ohm switch is connected between VEEIN and VEEOUT with a foldback current limit. An undervoltage lockout circuit prevents the switches from turning on while the VEEIN pin voltage is greater than -9.25V. (See Datasheet)", 3 5VOUT (in) "5V Output Sense. The P\W\R\G\D\ pin will not pull low until the 5VOUT pin voltage exceeds 4.61V. A 200ohm active pull-down discharges 5VOUT to ground when the power switches are turned off.", 4 TIMER (in) "Current Fault Inhibit Timing Input and Auxiliary VCC. Connect a capacitor from TIMER to GND. When the LTC4244 is turned on, a 21uA pull-up current source is connected to TIMER. Current limit faults will be ignored until the (See Datasheet)", 5 OFF/~{ON} (in) "Digital Input. Connect the CPCI BD_SEL# signal to the OFF/O\N\ pin. When the OFF/O\N\ pin is pulled low, the GATE pin is pulled high by a 67uA current source and the internal 12V and -12V switches are turned on. When the (See Datasheet)", 6 ~{FAULT} (io) "Open-Drain Digital I/O. F\A\U\L\T\ is pulled low when a current limit fault is detected. Current limit faults are ignored until the voltage at the TIMER pin is within 1.6V of 12VIN. Once the TIMER cycle is complete, (See Datasheet)", 7 ~{PWRGD} (oc) "Open-Drain Digital Power Good Output. Connect the CPCI HEALTHY# signal to the P\W\R\G\D\ pin. P\W\R\G\D\ remains low while V12VOUT >= 11.1V, V3.3VOUT >= 2.9V, V5VOUT >= 4.61V, and VEEOUT=< -11.1V. When any of the supplies (See Datasheet)", 8 GND (power) "Device Ground.", 9 ~{RESETIN} (in) "Digital Input. Connect the CPCI PCI_RST# signal to the R\E\S\E\T\I\N\ pin. Pulling the R\E\S\E\T\I\N\ pin low will cause R\E\S\E\T\O\U\T\ to pull low. R\E\S\E\T\O\U\T\ will also pull low when P\W\R\G\D\ is high.", 10 ~{RESETOUT} (oc) "Open-Drain Digital Output. Connect the CPCI_LOCAL_RST# signal to the R\E\S\E\T\O\U\T\ pin. R\E\S\E\T\O\U\T\ is the logical combination of the R\E\S\E\T\I\N\ and P\W\R\G\D\.", 11 DRIVE (oc) "Precharge Base Drive Output. Provides base drive for an external NPN emitter-follower that in turn biases the PRECHARGE node.", 12 PRECHARGE (in) "Precharge Monitor Input. An internal error amplifier servos the DRIVE pin voltage to keep the PRECHARGE node at 1V. See Applications Information for generating voltages other than 1V. If not used, tie the PRECHARGE pin to (See Datasheet)", 13 5VIN (in) "5V Supply Sense Input. An undervoltage lockout circuit prevents the switches from turning on when the voltage at the 5VIN pin is less than 4.25V.", 14 5VSENSE (in) "5V Current Limit Sense. With a sense resistor placed in the supply path between 5VIN and 5VSENSE, the GATE pin voltage will be adjusted to maintain a constant 51mV across the sense resistor and a constant current through the (See Datasheet)", 15 GATE (out) "High Side Gate Drive for the External 3.3V and 5V N-Channel Pass Transistors. An external series RC network is required for current limit loop compensation and setting the minimum ramp-up time. During power-up, the slope of (See Datasheet)", 16 3.3VSENSE (in) "3.3V Current Limit Sense. With a sense resistor placed in the supply path between 3.3VIN and 3.3VSENSE, the GATE pin voltage will be adjusted to maintain a constant 51mV across the sense resistor and a constant current (See Datasheet)", 17 3.3VIN (in) "3.3V Supply Sense Input. An undervoltage lockout circuit prevents the switches from turning on when the voltage at the 3.3VIN pin is less than 2.5V. If no 3.3V input supply is available, short the 3.3VIN pin to the 5VIN pin.", 18 3.3VOUT (in) "Analog Input Used to Monitor the 3.3V Output Supply Voltage. The P\W\R\G\D\ pin cannot pull low until the 3.3VOUT pin voltage exceeds 2.9V. If no 3.3V input supply is available, tie the 3.3VOUT pin to the 5VOUT pin. A 200ohm (See Datasheet)", 19 VEEOUT (power) "12V Supply Output. A 1ohm switch is connected between VEEIN and VEEOUT. VEEOUT must be less than -11.1V before the P\W\R\G\D\ pin pulls low. The VEEOUT power good comparator is disabled for the LTC4244-1. A390ohm active (See Datasheet)", 20 12VOUT (power) "12V Supply Output. A 0.5ohm switch is connected between 12VIN and 12VOUT. 12VOUT must exceed 11.1V before the P\W\R\G\D\ pin can pull low. A 440ohm active pull-down discharges 12VOUT to ground when the power switches are (See Datasheet)"

## LTC4244IGN#TR
designator U?
Rugged, Compact PCI Bus Hot Swap Controller, 3.3 V, 5 V, +/-12 V Vin, 20-pin SOP (GN-20), -40 to 85 degC, Tape and Reel; Manufacturer: Linear Technology; PartNumber: LTC4244IGN#TR; Active Limiting: yes; Circuit Breaker Accuracy(%): 14; Circuit Breaker Threshold: 52 mV; Circuit Breakers(#): 4; Extended Temp: C, I; Fast Comparator: no; In-Rush Current: Active; PackageVersion: Rev. B, 03/2012; PackageReference: GN-20; PackageDescription: 20-Pin Plastic SSOP, Body 8.649 x 3.899 mm, Pitch 0.635 mm; Supplier 1: Digi-Key; Supplier Part Number 1: LTC4244IGN#TR-ND; Fault: yes; Foldback: yes; Packing: Tape and Reel; Power Good: yes; Reset: no; RoHS: FALSE; Vin Range: 3.3 V, 5 V, +/-12 V; Mounting Technology: Surface Mount; ComponentLink1Description: Manufacturer URL; ComponentLink1URL: http://www.linear.com/; ComponentLink2Description: Datasheet; ComponentLink2URL: http://cds.linear.com/docs/en/datasheet/42441f.pdf; ComponentLink3Description: Package Specification; ComponentLink3URL: http://cds.linear.com/docs/en/packaging/05081641_B_GN20.pdf
footprint LT-GN-20_N (SOP, 20-Leads, Body 8.7x4mm, Pitch 0.635mm, IPC Medium Density)
footprint LT-GN-20_L (SOP, 20-Leads, Body 8.7x4mm, Pitch 0.635mm, IPC High Density)
footprint LT-GN-20_M (SOP, 20-Leads, Body 8.7x4mm, Pitch 0.635mm, IPC Low Density)
pins: 1 12VIN (power) "12V Supply Input. A 0.5ohm switch is connected between 12VIN and 12VOUT with a foldback current limit. An undervoltage lockout circuit prevents the switches from turning on while the 12VIN pin voltage is less than 9V. 12VIN (See Datasheet)", 2 VEEIN (power) "-12V Supply Input. A 1ohm switch is connected between VEEIN and VEEOUT with a foldback current limit. An undervoltage lockout circuit prevents the switches from turning on while the VEEIN pin voltage is greater than -9.25V. (See Datasheet)", 3 5VOUT (in) "5V Output Sense. The P\W\R\G\D\ pin will not pull low until the 5VOUT pin voltage exceeds 4.61V. A 200ohm active pull-down discharges 5VOUT to ground when the power switches are turned off.", 4 TIMER (in) "Current Fault Inhibit Timing Input and Auxiliary VCC. Connect a capacitor from TIMER to GND. When the LTC4244 is turned on, a 21uA pull-up current source is connected to TIMER. Current limit faults will be ignored until the (See Datasheet)", 5 OFF/~{ON} (in) "Digital Input. Connect the CPCI BD_SEL# signal to the OFF/O\N\ pin. When the OFF/O\N\ pin is pulled low, the GATE pin is pulled high by a 67uA current source and the internal 12V and -12V switches are turned on. When the (See Datasheet)", 6 ~{FAULT} (io) "Open-Drain Digital I/O. F\A\U\L\T\ is pulled low when a current limit fault is detected. Current limit faults are ignored until the voltage at the TIMER pin is within 1.6V of 12VIN. Once the TIMER cycle is complete, (See Datasheet)", 7 ~{PWRGD} (oc) "Open-Drain Digital Power Good Output. Connect the CPCI HEALTHY# signal to the P\W\R\G\D\ pin. P\W\R\G\D\ remains low while V12VOUT >= 11.1V, V3.3VOUT >= 2.9V, V5VOUT >= 4.61V, and VEEOUT=< -11.1V. When any of the supplies (See Datasheet)", 8 GND (power) "Device Ground.", 9 ~{RESETIN} (in) "Digital Input. Connect the CPCI PCI_RST# signal to the R\E\S\E\T\I\N\ pin. Pulling the R\E\S\E\T\I\N\ pin low will cause R\E\S\E\T\O\U\T\ to pull low. R\E\S\E\T\O\U\T\ will also pull low when P\W\R\G\D\ is high.", 10 ~{RESETOUT} (oc) "Open-Drain Digital Output. Connect the CPCI_LOCAL_RST# signal to the R\E\S\E\T\O\U\T\ pin. R\E\S\E\T\O\U\T\ is the logical combination of the R\E\S\E\T\I\N\ and P\W\R\G\D\.", 11 DRIVE (oc) "Precharge Base Drive Output. Provides base drive for an external NPN emitter-follower that in turn biases the PRECHARGE node.", 12 PRECHARGE (in) "Precharge Monitor Input. An internal error amplifier servos the DRIVE pin voltage to keep the PRECHARGE node at 1V. See Applications Information for generating voltages other than 1V. If not used, tie the PRECHARGE pin to (See Datasheet)", 13 5VIN (in) "5V Supply Sense Input. An undervoltage lockout circuit prevents the switches from turning on when the voltage at the 5VIN pin is less than 4.25V.", 14 5VSENSE (in) "5V Current Limit Sense. With a sense resistor placed in the supply path between 5VIN and 5VSENSE, the GATE pin voltage will be adjusted to maintain a constant 51mV across the sense resistor and a constant current through the (See Datasheet)", 15 GATE (out) "High Side Gate Drive for the External 3.3V and 5V N-Channel Pass Transistors. An external series RC network is required for current limit loop compensation and setting the minimum ramp-up time. During power-up, the slope of (See Datasheet)", 16 3.3VSENSE (in) "3.3V Current Limit Sense. With a sense resistor placed in the supply path between 3.3VIN and 3.3VSENSE, the GATE pin voltage will be adjusted to maintain a constant 51mV across the sense resistor and a constant current (See Datasheet)", 17 3.3VIN (in) "3.3V Supply Sense Input. An undervoltage lockout circuit prevents the switches from turning on when the voltage at the 3.3VIN pin is less than 2.5V. If no 3.3V input supply is available, short the 3.3VIN pin to the 5VIN pin.", 18 3.3VOUT (in) "Analog Input Used to Monitor the 3.3V Output Supply Voltage. The P\W\R\G\D\ pin cannot pull low until the 3.3VOUT pin voltage exceeds 2.9V. If no 3.3V input supply is available, tie the 3.3VOUT pin to the 5VOUT pin. A 200ohm (See Datasheet)", 19 VEEOUT (power) "12V Supply Output. A 1ohm switch is connected between VEEIN and VEEOUT. VEEOUT must be less than -11.1V before the P\W\R\G\D\ pin pulls low. The VEEOUT power good comparator is disabled for the LTC4244-1. A390ohm active (See Datasheet)", 20 12VOUT (power) "12V Supply Output. A 0.5ohm switch is connected between 12VIN and 12VOUT. 12VOUT must exceed 11.1V before the P\W\R\G\D\ pin can pull low. A 440ohm active pull-down discharges 12VOUT to ground when the power switches are (See Datasheet)"